# Altium footprint library TME_xxxxS.PcbLib: 1 footprints
Each footprint in its own frame and in the unit in brackets; x right, y up, seen from the top. Pads: shape width x height; smd on the part's side, far side on the other; paste and mask are expansions set on the pad; w line width, h text height; cw(c..) or ccw(c..) is an arc to the next point about the centre after c.
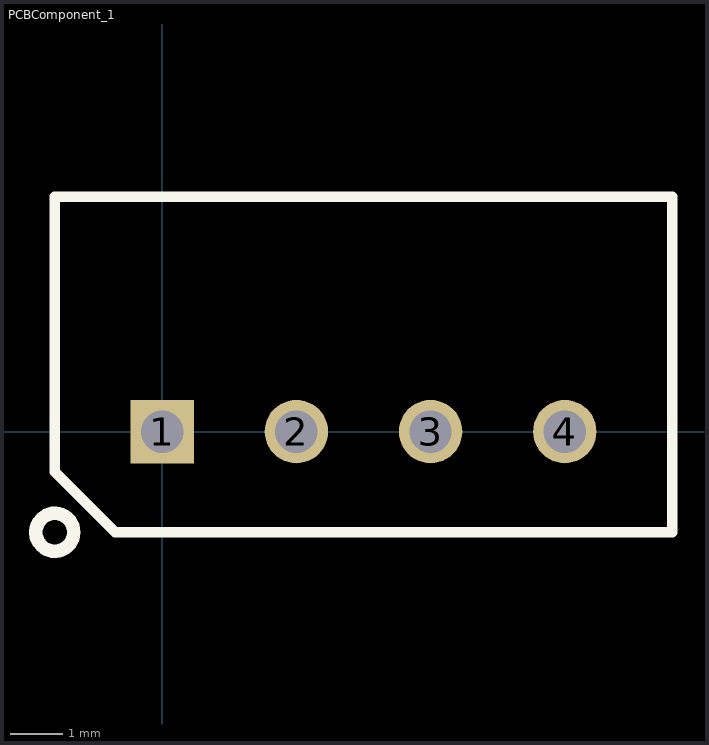
[diagram p0: the footprint, top view; thin cyan lines are the x and y axes]

## PCBComponent_1 [mm]
pads (4):
  rect 1.2x1.2 hole 0.8: 1(0,0)
  round 1.2 hole 0.8: 2(2.54,0) 3(5.08,0) 4(7.62,0)
Top Overlay:
  circle w0.254: c-2.032,-1.905 r0.359
  lines w0.2: -2.032,-0.762 -0.889,-1.905 9.652,-1.905 9.652,4.445 -2.032,4.445 -2.032,-0.762
3D body "tme_3d_drawing.stp": height 10.5, standoff -2.6, extent -1.875,-1.73 9.525,4.27